# Altium schematic symbol library NN01-102.SchLib: 1 symbol
Pins are listed as number, name and electrical type; pins without a type are passive.

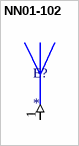
[diagram p0: symbol NN01-102]

## NN01-102
designator E?
2.45GHz Bluetooth, WLAN, Zigbee Chip RF Antenna 2.4GHz ~ 2.5GHz 1.7dBi Solder Surface Mount; MF: {'manufacturer': u'Ignion'}; MP: NN01-102; Availability: Unavailable; Value: *; Price: None; Package: None
footprint XCVR_NN01-102
pins: 1 (in)